# EAGLE library part A8499 (library SparkFun)
Allegro DCDC convertor
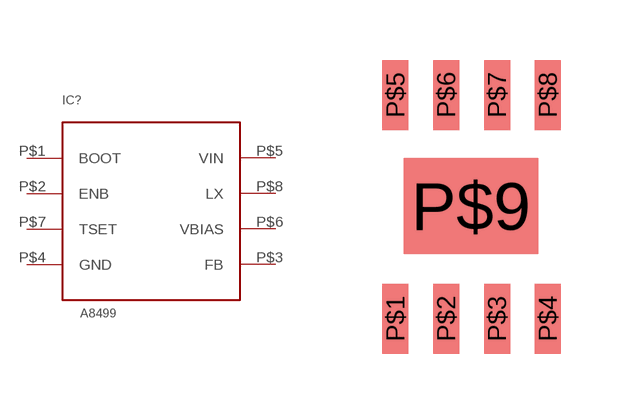
[diagram p307: symbol with the pads of SOIC-8-THERMAL; footprint SOIC-8-THERMAL]

Designator prefix IC?

## A8499  [SOIC-8-THERMAL]
P$1  BOOT
P$2  ENB
P$3  FB
P$4  GND  pwr
P$5  VIN  pwr
P$6  VBIAS
P$7  TSET
P$8  LX

## Footprint SOIC-8-THERMAL (pad centres in mm)
smd 0.65 x 1.75: P$1 -1.27,-2.54; P$2 0,-2.54; P$3 1.27,-2.54; P$4 2.54,-2.54; P$5 -1.27,3.06; P$6 0,3.06; P$7 1.27,3.06; P$8 2.54,3.06
smd 3.365 x 2.41: P$9 0.62,0.28